# EAGLE library part WE-TVS-HS_SOT23-6L_824013 (library 824031815_Eagle_WE-TVS_rev20a)
WE-TVS TVS Diode – High Speed Series Characteristics Low clamping voltage Sturdy design Very low capacitance Flow Thru Design for a simple layout Rail to Rail protection Epoxy flame resistant UL94-V0 RoHS, REACH and free of halogens Applications Very fast data lines USB 2.0 Ethernet PoE VGA Sim Cards Keypads HS = High Speed <https://katalog.we-online.com/media/images/v2/o14883v209%20Family_WE-TVS_HIGHSPEED.> Details see: https://katalog.we-online.com/en/pbs/WE-TVS-HS Updated by Ella Wu 2019-07-12 2019 (C) Wurth Elektronik
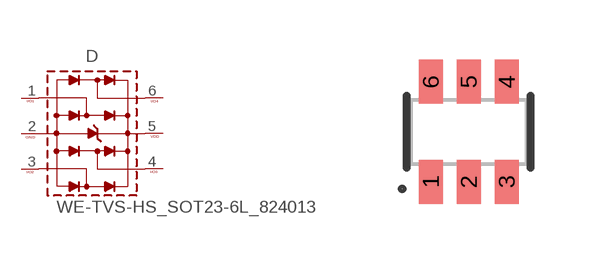
[diagram p5: symbol with the pads of WE-TVS_SOT23-6L; footprint WE-TVS_SOT23-6L]

Designator prefix D

## WE-TVS-HS_SOT23-6L_824013 (C-CH: 3pF; CHANNELS: 4+1; DATASHEET-URL: https://www.we-online.com/catalog/datasheet/824013.pdf; IPEAK: 12A; MOUNT: SMT; PART-NUMBER: 824013; VALUE: 3.3Vdc; VBR: 4.5V)  [WE-TVS_SOT23-6L]
1  1  pas
2  GND  pas
3  3  pas
4  4  pas
5  VDD  pas
6  6  pas

## Footprint WE-TVS_SOT23-6L (pad centres in mm)
WE-TVS TVS Diode Size: SOT23-6L L X W X H = 2.8mm X 2.9mm X 1.16mm
smd 0.6 x 1.1: 1 -0.95,-1.25; 2 0,-1.25; 3 0.95,-1.25; 4 0.95,1.25; 5 0,1.25; 6 -0.95,1.25